# EAGLE library part TRIMPOT_32XX (library wheat)
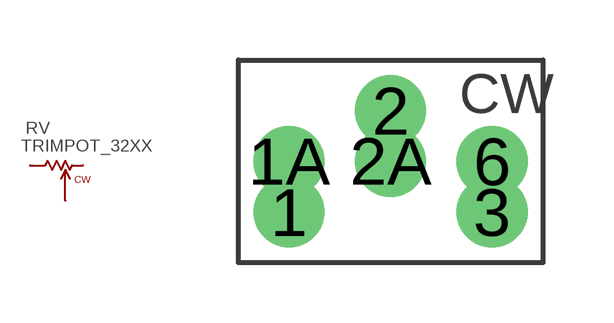
[diagram p166: symbol with the pads of TRIMPOT_32XX; footprint TRIMPOT_32XX]

Designator prefix RV

## TRIMPOT_32XX  [TRIMPOT_32XX]
1  1  pas
1A  1A  pas
2  2  pas
2A  2A  pas
3  3  pas
6  3A  pas

## Footprint TRIMPOT_32XX (pad centres in mm)
drill 0.889 pad 1.778: 1 -2.54,-1.27; 1A -2.54,0; 2 0,1.27; 2A 0,0; 3 2.54,-1.27; 6 2.54,0